# Altium footprint library Stove_Light.PcbLib: 127 footprints (part 4 of 8)
Each footprint in its own frame and in the unit in brackets; x right, y up, seen from the top. Pads: shape width x height; smd on the part's side, far side on the other; paste and mask are expansions set on the pad; w line width, h text height; cw(c..) or ccw(c..) is an arc to the next point about the centre after c.
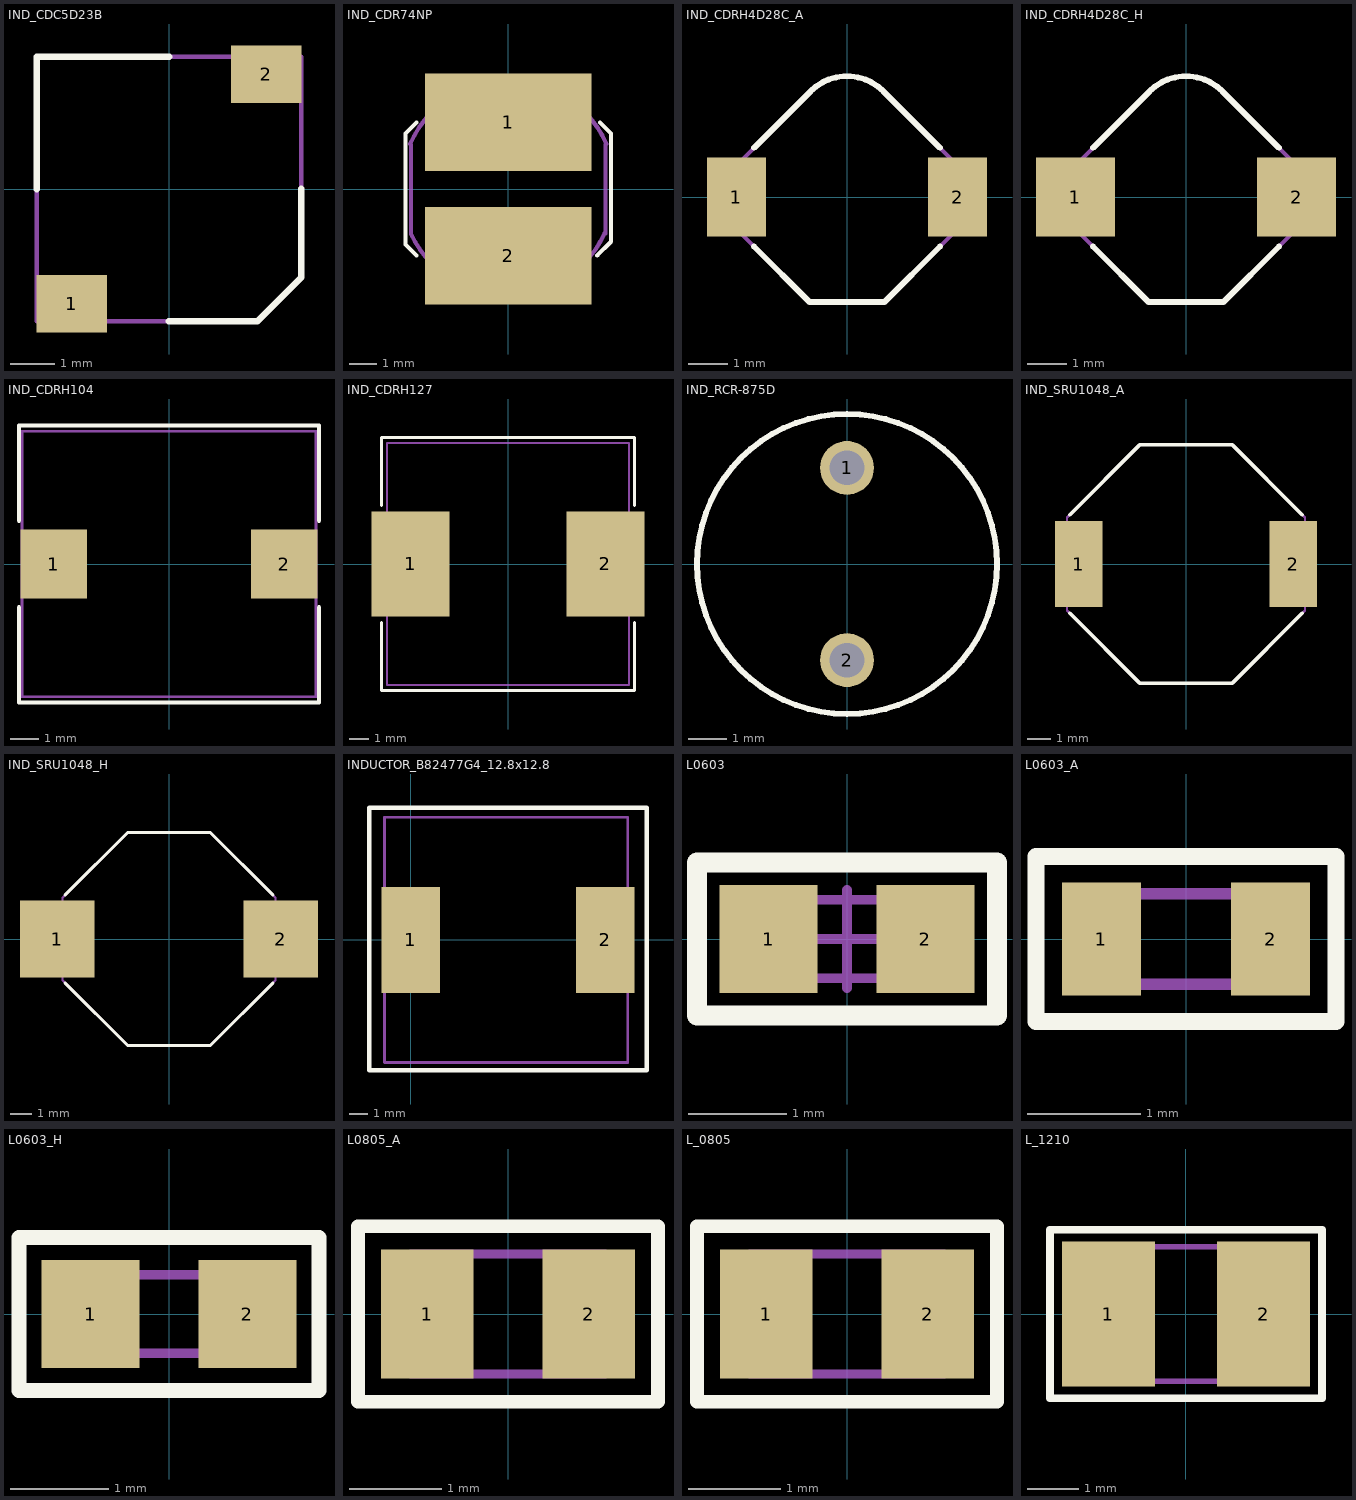
[diagram p3: the footprints below, top view; thin cyan lines are the x and y axes]

## IND_CDC5D23B [mm]
pads (2):
  rect 1.6x1.3 smd: 1(-2.2,-2.6) 2(2.2,2.6)
Top Overlay:
  lines w0.15: -3,0 -3,3 0,3 ; 0,-3 2,-3 3,-2 3,0
Mechanical 7:
  lines w0.1: -3,-3 2,-3 3,-2 3,3 -3,3 -3,-2.5 -3,-3
Mechanical 10:
  text ".Designator" at -0.985,0.276 h0.8
  text ".Comment" at -0.985,-0.414 h0.6
3D body: height 2.5, standoff 0, extent -3,-3 3,3

## IND_CDR74NP [mm]
pads (2):
  rect 6x3.5 smd: 1(0,2.4) 2(0,-2.4)
Top Overlay:
  lines w0.15: -3.3,-2.4 -3.7,-2 -3.7,-1.9 -3.7,1.9 -3.7,2 -3.3,2.4 ; 3.3,2.4 3.7,2 3.7,1.9 3.7,-1.9 3.2,-2.4 ; 3.2,-2.4 3.2,-2.4
Mechanical 7:
  lines w0.15: -3.534,1.615 cw(c0,0.087) 3.534,1.615 ; -3.509,-1.611 ccw(c-0.022,0.022) 3.475,-1.588 ; -3.5,-1.6 -3.5,1.6 ; 3.5,-1.6 3.5,1.6
3D body: height 4.5, standoff 0, extent -3.819,-3.842 3.85,3.843

## IND_CDRH4D28C_A [mm]
height 3
pads (2):
  rect 1.5x2 smd: 1(-2.8,0) 2(2.8,0)
Top Overlay:
  lines w0.15: -2.356,-1.25 -0.955,-2.652 0.955,-2.652 2.356,-1.25 ; -2.353,1.253 -0.919,2.687 cw(c0,1.768) 0.919,2.687 2.353,1.253
Mechanical 7:
  lines w0.1: -2.899,-0.707 -2.899,0.707 -0.919,2.687 cw(c0,1.768) 0.919,2.687 2.899,0.707 2.899,-0.707 0.955,-2.652 -0.955,-2.652 -2.899,-0.707
Mechanical 10:
  text ".Designator" at -0.985,0.265 h0.8
  text ".Comment" at -0.985,-0.425 h0.6
3D body: height 3, standoff 0, extent -2.899,-2.652 2.899,2.687
3D body: height 3, standoff 0, extent -1.29,0.47 1.3,3.065

## IND_CDRH4D28C_H [mm]
height 3
pads (2):
  rect 2x2 smd: 1(-2.8,0) 2(2.8,0)
Top Overlay:
  lines w0.15: -2.356,-1.25 -0.955,-2.652 0.955,-2.652 2.356,-1.25 ; -2.353,1.253 -0.919,2.687 cw(c0,1.768) 0.919,2.687 2.353,1.253
Mechanical 7:
  lines w0.1: -2.899,-0.707 -2.899,0.707 -0.919,2.687 cw(c0,1.768) 0.919,2.687 2.899,0.707 2.899,-0.707 0.955,-2.652 -0.955,-2.652 -2.899,-0.707
Mechanical 10:
  text ".Designator" at -0.985,0.265 h0.8
  text ".Comment" at -0.985,-0.425 h0.6
3D body: height 3, standoff 0, extent -2.899,-2.652 2.899,2.687
3D body: height 3, standoff 0, extent -1.29,0.47 1.3,3.065

## IND_CDRH104 [mm]
pads (2):
  rect 2.3x2.4 smd: 1(-4,0) 2(4,0)
Top Overlay:
  lines w0.15: -5.2,-1.5 -5.2,-4.8 5.2,-4.8 5.2,-1.5 ; -5.2,1.5 -5.2,4.8 5.2,4.8 5.2,1.5
Mechanical 7:
  lines w0.1: -5.1,-4.6 -5.1,4.6 5.1,4.6 5.1,-4.6 -5.1,-4.6
Mechanical 10:
  text ".Comment" at -1.1,-6.1 h0.6
  text ".Designator" at -1.5,5.5 h0.8
3D body: height 5, standoff 0.2, extent -5.1,-4.6 5.1,4.6

## IND_CDRH127 [mm]
pads (2):
  rect 4x5.4 smd: 1(-5,0) 2(5,0)
Top Overlay:
  lines w0.15: -6.5,-3 -6.5,-6.5 6.5,-6.5 6.5,-3 ; -6.5,3 -6.5,6.5 6.5,6.5 6.5,3
Mechanical 7:
  lines w0.1: -6.2,-6.2 6.2,-6.2 6.2,6.2 -6.2,6.2 -6.2,-6.2
Mechanical 10:
  text ".Designator" at -1.5,5.5 h0.8
  text ".Comment" at -1.1,-6.1 h0.6
3D body: height 8, standoff 0.2, extent -6.2,-6.2 6.2,6.2

## IND_RCR-875D [mm]
height 7.5
pads (2):
  round 1.4 hole 0.9: 1(0,2.5) 2(0,-2.5)
Top Overlay:
  circle w0.15: c0,0 r3.9
Mechanical 7:
  circle w0.1: c0,0 r3.9
Mechanical 10:
  text ".Comment" at -1.245,4.335 h0.6
  text ".Designator" at -1.255,4.905 h0.8
3D body: height 7.5, standoff 0, extent -3.869,-3.892 3.9,3.892

## IND_SRU1048_A [mm]
height 5.1
pads (2):
  rect 2x3.6 smd: 1(-4.5,0) 2(4.5,0)
Top Overlay:
  lines w0.15: -4.875,-2.075 -1.95,-5 1.95,-5 4.875,-2.075 ; -4.875,2.075 -1.95,5 1.95,5 4.875,2.075
Mechanical 7:
  lines w0.1: -5,-1.95 -1.95,-5 1.95,-5 5,-1.95 5,1.95 1.95,5 -1.95,5 -5,1.95 -5,-1.95
Mechanical 10:
  text ".Designator" at -1.235,6.315 h0.8
  text ".Comment" at -1.235,5.625 h0.6
3D body: height 5.1, standoff 0, extent -5,-5 5,5

## IND_SRU1048_H [mm]
height 5.1
pads (2):
  rect 3.5x3.6 smd: 1(-5.25,0) 2(5.25,0)
Top Overlay:
  lines w0.15: -4.875,-2.075 -1.95,-5 1.95,-5 4.875,-2.075 ; -4.875,2.075 -1.95,5 1.95,5 4.875,2.075
Mechanical 7:
  lines w0.1: -5,-1.95 -5,1.95 -1.95,5 1.95,5 5,1.95 5,-1.95 1.95,-5 -1.95,-5 -5,-1.95
Mechanical 10:
  text ".Comment" at -1.235,5.625 h0.6
  text ".Designator" at -1.235,6.315 h0.8
3D body: height 5.1, standoff 0, extent -5,-5 5,5

## INDUCTOR_B82477G4_12.8x12.8 [mm] "Катушка индуктивности SMD"
pads (2):
  rect 3.1x5.6 smd: 1(0,0) 2(10.3,0)
Top Overlay:
  lines w0.25: -2.2,-6.9 12.5,-6.9 12.5,7 -2.2,7 -2.2,-6.9
Mechanical 7:
  lines w0.15: -1.4,-6.5 -1.4,6.5 11.5,6.5 11.5,-6.5 -1.4,-6.5
3D body: height 8, standoff 0, extent -1.3,-6.4 11.5,6.4

## L0603 [mm]
height 0.8
pads (2):
  rect 1x1.1 smd: 1(-0.8,0) 2(0.8,0)
Top Overlay:
  lines w0.2: -1.53,-0.78 1.53,-0.78 1.53,0.78 -1.53,0.78 -1.53,-0.78
Mechanical 9:
  text ".Comment" at -1,-0.5 h0.8
  text ".Designator" at -1,0.25 h1
Mechanical 11:
  lines w0.1: -0.8,-0.4 0.8,-0.4 0.8,0.4 -0.8,0.4 -0.8,-0.4
Mechanical 15:
  lines w0.05: -1.53,-0.78 -1.53,0.78 1.53,0.78 1.53,-0.78 -1.53,-0.78
  lines w0.1: -0.5,0 0.5,0 ; 0,-0.5 0,0.5
3D body: height 0.8, standoff 0, extent -0.8,-0.4 0.8,0.4

## L0603_A [mm]
height 0.8
pads (2):
  rect 0.7x1 smd: 1(-0.75,0) 2(0.75,0)
Top Overlay:
  lines w0.15: -1.33,-0.73 -1.33,0.73 1.33,0.73 1.33,-0.73 -1.33,-0.73
Mechanical 7:
  lines w0.1: -0.8,-0.4 0.8,-0.4 0.8,0.4 -0.8,0.4 -0.8,-0.4
Mechanical 10:
  text ".Comment" at -0.75,-1.28 h0.6
  text ".Designator" at -0.62,1 h0.8
3D body: height 0.8, standoff 0, extent -0.8,-0.4 0.8,0.4

## L0603_H [mm]
height 0.8
pads (2):
  rect 1x1.1 smd: 1(-0.8,0) 2(0.8,0)
Top Overlay:
  lines w0.15: -1.53,-0.78 1.53,-0.78 1.53,0.78 -1.53,0.78 -1.53,-0.78
Mechanical 7:
  lines w0.1: -0.8,-0.4 -0.8,0.4 0.8,0.4 0.8,-0.4 -0.8,-0.4
Mechanical 10:
  text ".Comment" at -0.61,-1.33 h0.6
  text ".Designator" at -0.62,1 h0.8
3D body: height 0.8, standoff 0, extent -0.8,-0.4 0.8,0.4

## L0805_A [mm]
height 1.4
pads (2):
  rect 1x1.4 smd: 1(-0.875,0) 2(0.875,0)
Top Overlay:
  lines w0.15: -1.625,-0.95 1.625,-0.95 1.625,0.95 -1.625,0.95 -1.625,-0.95
Mechanical 7:
  lines w0.1: -1.05,-0.65 1.05,-0.65 1.05,0.65 -1.05,0.65 -1.05,-0.65
Mechanical 10:
  text ".Comment" at -1.125,-1.625 h0.6
  text ".Designator" at -1.525,1.375 h0.8
3D body: height 1.4, standoff 0, extent -1.05,-0.65 1.05,0.65

## L_0805 [mm] "SMD LED LAMP"
height 1.4
pads (2):
  rect 1x1.4 smd: 1(-0.875,0) 2(0.875,0)
Top Overlay:
  lines w0.15: -1.625,-0.95 1.625,-0.95 1.625,0.95 -1.625,0.95 -1.625,-0.95
Mechanical 7:
  lines w0.1: -1.05,-0.65 1.05,-0.65 1.05,0.65 -1.05,0.65 -1.05,-0.65
Mechanical 10:
  text ".Comment" at -1.125,-1.625 h0.6
  text ".Designator" at -1.525,1.375 h0.8
3D body: height 1.1, standoff 0, extent -1.01,-0.625 1.01,0.625

## L_1210 [mm]
height 0.55
pads (2):
  rect 1.8x2.8 smd: 1(-1.5,0) 2(1.5,0)
Top Overlay:
  lines w0.15: -2.63,-1.63 -2.63,1.63 2.63,1.63 2.63,-1.63 -2.63,-1.63
Mechanical 7:
  lines w0.1: -1.6,-1.3 -1.6,1.3 1.6,1.3 1.6,-1.3 -1.6,-1.3
Mechanical 10:
  text ".Comment" at -0.81,-2.25 h0.6
  text ".Designator" at -0.71,1.89 h0.8
3D body: height 0.55, standoff 0, extent -1.55,-1.3 1.55,1.3